# EAGLE library part HEADER-1X9 (library df4iah_connector)
Header 1X9 2.54mm
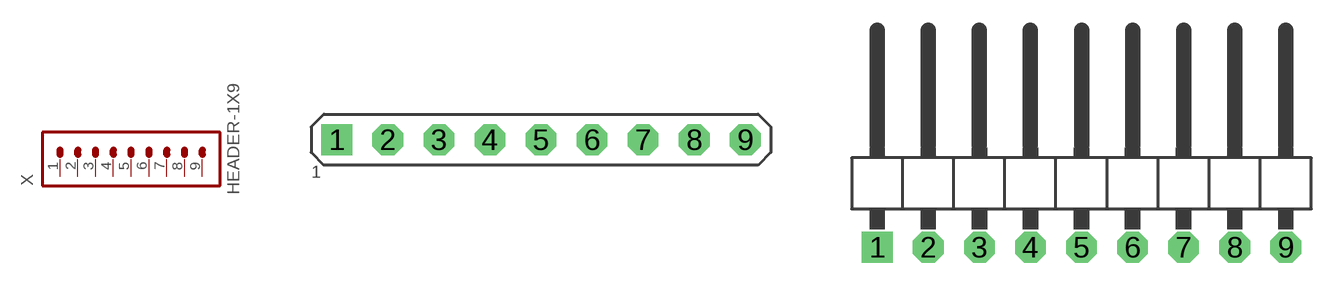
[diagram p27: symbol with the pads of 1X09; footprints 1X09, 1X09/90]

Designator prefix X

## HEADER-1X9  [1X09]
1  1  pas
2  2  pas
3  3  pas
4  4  pas
5  5  pas
6  6  pas
7  7  pas
8  8  pas
9  9  pas

## HEADER-1X9/90  [1X09/90]
Pads as for 1X09

## Footprint 1X09 (pad centres in mm)
Header 1X2 2.54mm
drill 1.016 square: 1 -10.16,0
drill 1.016 octagon: 2 -7.62,0; 3 -5.08,0; 4 -2.54,0; 5 0,0; 6 2.54,0; 7 5.08,0; 8 7.62,0; 9 10.16,0

## Footprint 1X09/90 (pad centres in mm)
Header 1X3 2.54mm, 90°
drill 1.016 square: 1 -10.16,0
drill 1.016 octagon: 2 -7.62,0; 3 -5.08,0; 4 -2.54,0; 5 0,0; 6 2.54,0; 7 5.08,0; 8 7.62,0; 9 10.16,0